# Altium schematic symbol library TUSB320IRWBR.SchLib: 1 symbol
Pins are listed as number, name and electrical type; pins without a type are passive.

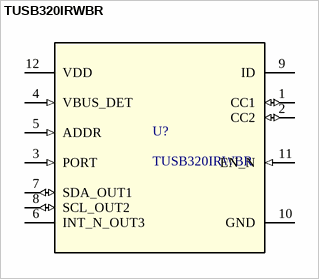
[diagram p0: symbol TUSB320IRWBR]

## TUSB320IRWBR
designator U?
No Description Available; Mfr_Name: Texas Instruments; Type: DEV; RefDes: RefDes; Copyright: Copyright (C) 2022 Ultra Librarian. All rights reserved.; Manufacturer_Part_Number: TUSB320IRWBR
footprint RWB0012A
pins: 1 CC1 (io), 2 CC2 (io), 3 PORT (in), 4 VBUS_DET (in), 5 ADDR (in), 6 INT_N_OUT3 (oc), 7 SDA_OUT1 (io), 8 SCL_OUT2 (io), 9 ID (oc), 10 GND (power), 11 EN_N (in), 12 VDD (power)